# Altium schematic symbol library GY-521.SchLib: 1 symbol
Pins are listed as number, name and electrical type; pins without a type are passive.

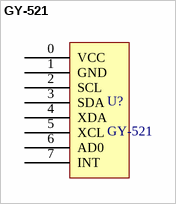
[diagram p0: symbol GY-521]

## GY-521
designator U?
footprint GT-521
pins: 0 VCC (power), 1 GND (power), 2 SCL, 3 SDA, 4 XDA, 5 XCL, 6 AD0, 7 INT